# EAGLE library part SLG50003 (library GREENPAK)
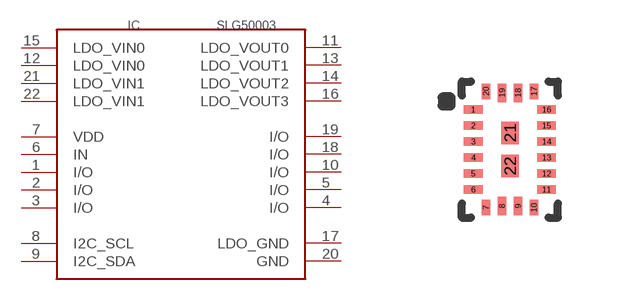
[diagram p21: symbol with the pads of STQFN-22-2.0X3.0_N; footprint STQFN-22-2.0X3.0_N]

Designator prefix IC

## SLG50003  [STQFN-22-2.0X3.0_N]
1  I/O
2  I/O
3  I/O
4  I/O
5  I/O
6  IN
7  VDD
8  I2C_SCL
9  I2C_SDA
10  I/O
11  LDO_VOUT0
12  LDO_VIN0
13  LDO_VOUT1
14  LDO_VOUT2
15  LDO_VIN0
16  LDO_VOUT3
17  LDO_GND
18  I/O
19  I/O
20  GND
21  LDO_VIN1
22  LDO_VIN1

## Footprint STQFN-22-2.0X3.0_N (pad centres in mm)
smd 0.465 x 0.21: 1 -0.917,1; 2 -0.917,0.6; 3 -0.917,0.2; 4 -0.917,-0.2; 5 -0.917,-0.6; 6 -0.917,-1; 11 0.917,-1; 12 0.917,-0.6; 13 0.917,-0.2; 14 0.917,0.2; 15 0.917,0.6; 16 0.917,1
smd 0.21 x 0.39: 7 -0.6,-1.454; 10 0.6,-1.454; 17 0.6,1.454; 20 -0.6,1.454
smd 0.21 x 0.465: 8 -0.2,-1.417; 9 0.2,-1.417; 18 0.2,1.417; 19 -0.2,1.417
smd 0.43 x 0.56: 21 0,0.415; 22 0,-0.415